# EAGLE library part SI1145 (library arducorder-mini)
Silicon Labs Si1145/46/47 Proximity/UV/Ambient light sensor w/I2C interface
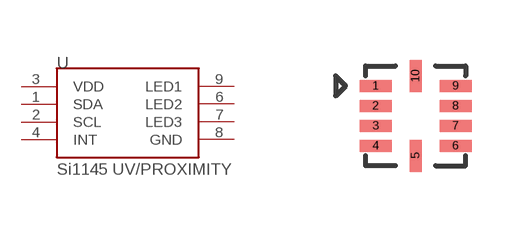
[diagram p4: symbol with the pads of SI1145; footprint SI1145]

Designator prefix -

## SI1145  [SI1145]
1  SDA
2  SCL
3  VDD
4  INT
6  LED2
7  LED3
8  GND
9  LED1

## Footprint SI1145 (pad centres in mm)
smd 0.8 x 0.3: 1 -1,0.75; 2 -1,0.25; 3 -1,-0.25; 4 -1,-0.75; 6 1,-0.75; 7 1,-0.25; 8 1,0.25; 9 1,0.75
smd 0.3 x 0.8: 5 0,-1; 10 0,1